# EAGLE library part PINHDR_2X3 (library Dal_V2)
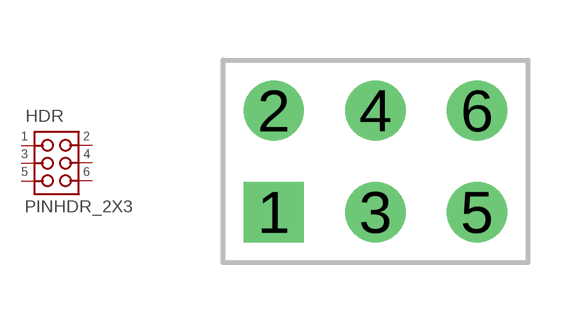
[diagram p7: symbol with the pads of PINHDR_TH_100_2X3; footprint PINHDR_TH_100_2X3]

Designator prefix HDR

## PINHDR_2X3FORCE  [PINHDR_TH_100_2X3]
1  P$1  pas
2  P$2  pas
3  P$3  pas
4  P$4  pas
5  P$5  pas
6  P$6  pas

## Footprint PINHDR_TH_100_2X3 (pad centres in mm)
drill 1 square: 1 -2.54,-1.27
drill 1: 2 -2.54,1.27; 3 0,-1.27; 4 0,1.27; 5 2.54,-1.27; 6 2.54,1.27